# EAGLE library part 39-30-?12?_S (library con-molex-mini-fit)
HEADER
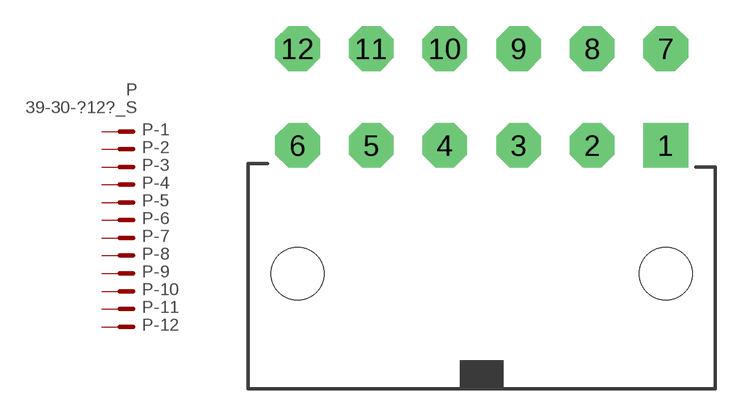
[diagram p13: symbol with the pads of 39-30-?12?; footprint 39-30-?12?]

Designator prefix P; gates -1=P-NV -2=P-N -3=P-N -4=P-N -5=P-N -6=P-N -7=P-N -8=P-N -9=P-N -10=P-N -11=P-N -12=P-N

## 39-30-12_S  [39-30-?12?]
1  -1:P  pas
2  -2:P  pas
3  -3:P  pas
4  -4:P  pas
5  -5:P  pas
6  -6:P  pas
7  -7:P  pas
8  -8:P  pas
9  -9:P  pas
10  -10:P  pas
11  -11:P  pas
12  -12:P  pas

## Footprint 39-30-?12? (pad centres in mm)
HEADER
drill 1.422 pad 2.54 square: 1 10.477,0
drill 1.422 pad 2.54 octagon: 2 6.287,0; 3 2.095,0; 4 -2.095,0; 5 -6.287,0; 6 -10.477,0; 7 10.477,5.512; 8 6.287,5.512; 9 2.095,5.512; 10 -2.095,5.512; 11 -6.287,5.512; 12 -10.477,5.512
hole 3 at -10.477,-7.3
hole 3 at 10.477,-7.3